# Altium footprint library CHK-I.PcbLib: 6 footprints
Each footprint in its own frame and in the unit in brackets; x right, y up, seen from the top. Pads: shape width x height; smd on the part's side, far side on the other; paste and mask are expansions set on the pad; w line width, h text height; cw(c..) or ccw(c..) is an arc to the next point about the centre after c.
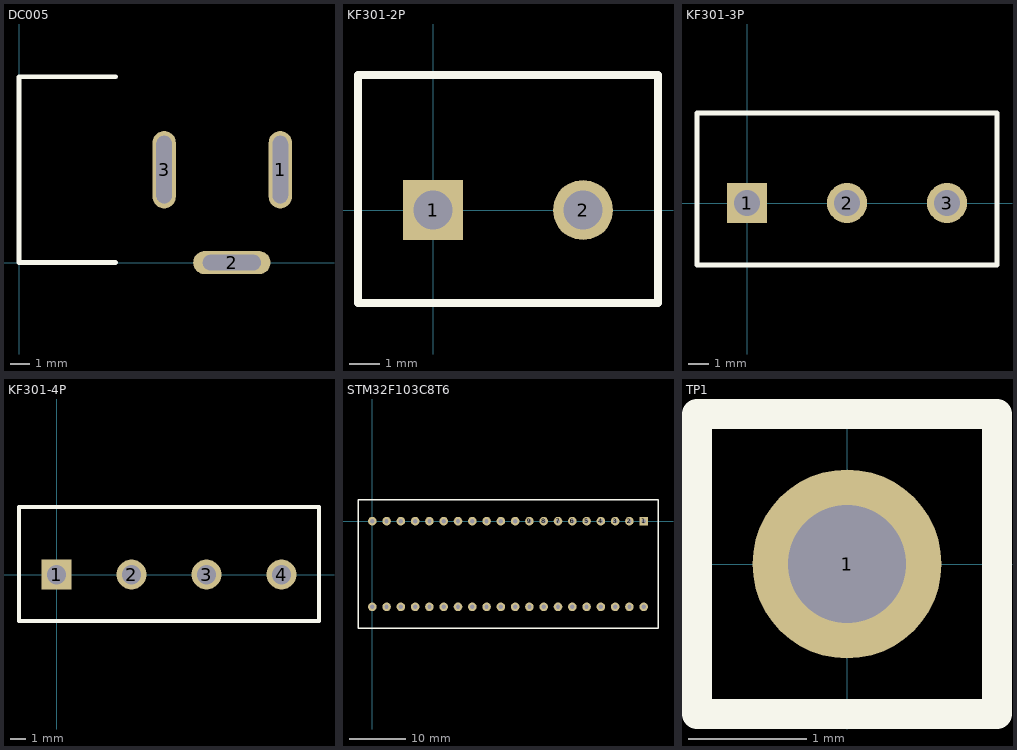
[diagram p0: the footprints below, top view; thin cyan lines are the x and y axes]

## DC005 [mm]
pads (3):
  oval 1.2x4 hole 0.8 slot 3.5 at 90 deg: 1(13.5,4.8) 3(7.5,4.8)
  oval 4x1.2 hole 0.8 slot 3 at 0 deg: 2(11,0)
Top Overlay:
  lines w0.254: 5,0 0,0 0,9.6 5,9.6

## KF301-2P [mm]
pads (2):
  rect 2x2 hole 1.3 square: 1(0,0)
  round 2 hole 1.3: 2(5,0)
Top Overlay:
  lines w0.254: -2.5,-3.1 -2.5,4.5 7.5,4.5 7.5,-3.1 -2.5,-3.1

## KF301-3P [mm]
pads (3):
  rect 2x2 hole 1.3 square: 1(0,0)
  round 2 hole 1.3: 2(5,0) 3(10,0)
Top Overlay:
  lines w0.254: -2.5,-3.1 12.5,-3.1 12.5,4.5 -2.5,4.5 -2.5,-3.1

## KF301-4P [mm]
pads (4):
  rect 2x2 hole 1.3 square: 1(0,0)
  round 2 hole 1.3: 2(5,0) 3(10,0) 4(15,0)
Top Overlay:
  lines w0.254: -2.5,-3.1 17.5,-3.1 17.5,4.5 -2.5,4.5 -2.5,-3.1

## STM32F103C8T6 [mil]
pads (40):
  rect 60x60 hole 30 square: 1(1900,0)
  round 60 hole 30: 2(1800,0) 3(1700,0) 4(1600,0) 5(1500,0) 6(1400,0) 7(1300,0) 8(1200,0) 9(1100,0) 10(1000,0) 11(900,0) 12(800,0) 13(700,0) 14(600,0) 15(500,0) 16(400,0) 17(300,0) 18(200,0) 19(100,0) 20(0,0) 21(1900,-600) 22(1800,-600) 23(1700,-600) 24(1600,-600) 25(1500,-600) 26(1400,-600) 27(1300,-600) 28(1200,-600) 29(1100,-600) 30(1000,-600) 31(900,-600) 32(800,-600) 33(700,-600) 34(600,-600) 35(500,-600) 36(400,-600) 37(300,-600) 38(200,-600) 39(100,-600) 40(0,-600)
Top Overlay:
  lines w10: -100,-750 -100,150 2000,150 2000,-750 -100,-750

## TP1 [mm] "Test Point 1"
pads (1):
  round 1.6 hole 1: 1(0,0)
Top Overlay:
  lines w0.254: -1.27,-1.27 1.27,-1.27 1.27,1.27 -1.27,1.27 -1.27,-1.27